# Altium footprint library PcbLib1.PcbLib: 20 footprints (part 1 of 2)
Each footprint in its own frame and in the unit in brackets; x right, y up, seen from the top. Pads: shape width x height; smd on the part's side, far side on the other; paste and mask are expansions set on the pad; w line width, h text height; cw(c..) or ccw(c..) is an arc to the next point about the centre after c.
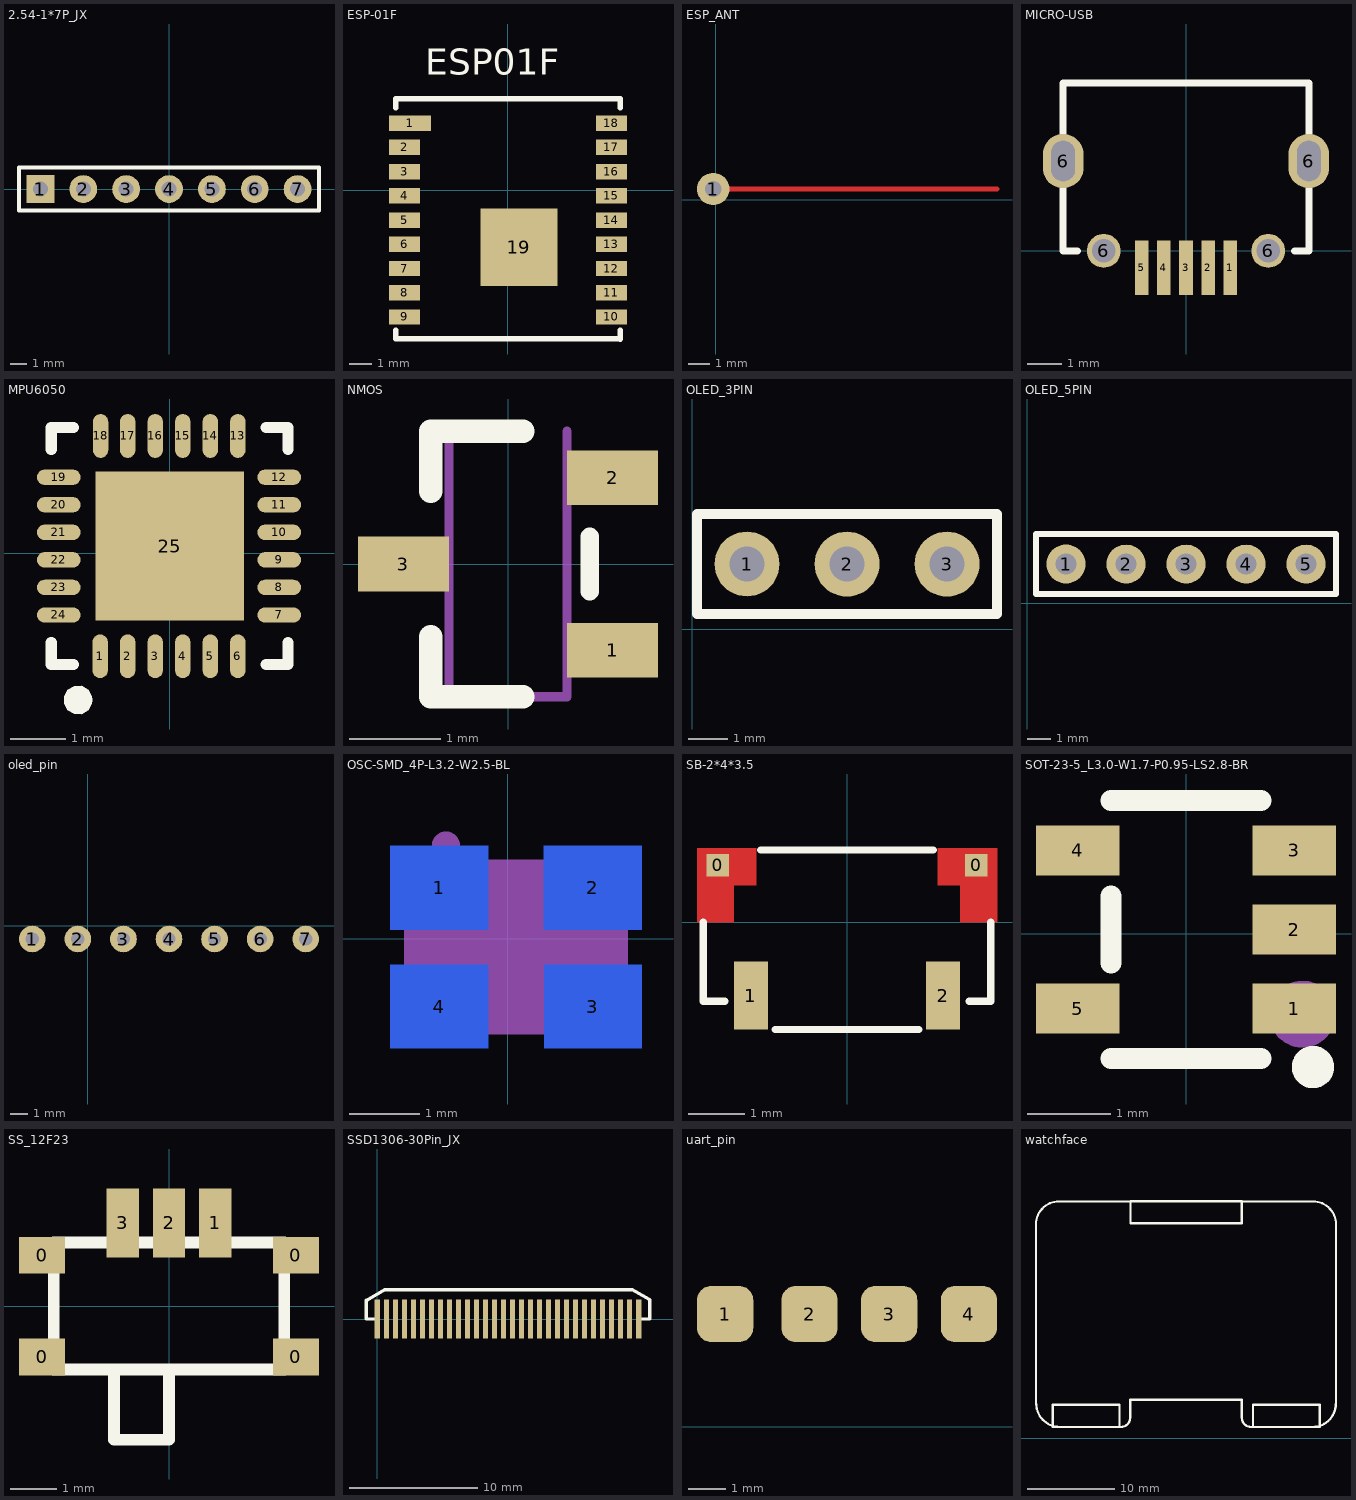
[diagram p0: the footprints below, top view; thin cyan lines are the x and y axes]

## 2.54-1*7P_JX [mil]
pads (7):
  rect 65x65 hole 35: 1(-300.06,0.15)
  round 65 hole 35: 2(-200,0) 3(-100,0) 4(0,0) 5(100,0) 6(200,0) 7(300,0)
Top Overlay:
  lines w10: -350.06,-49.85 -350.06,50.15 -200.06,50.15 349.94,50.15 349.94,-49.85 -350.06,-49.85

## ESP-01F [mm]
pads (19):
  rect 1.9x0.7 smd: 1(-4.445,3.054)
  rect 1.4x0.7 smd: 2(-4.695,1.954) 3(-4.695,0.854) 4(-4.695,-0.246) 5(-4.695,-1.346) 6(-4.695,-2.446) 7(-4.695,-3.546) 8(-4.695,-4.646) 9(-4.695,-5.746) 10(4.695,-5.746) 11(4.695,-4.646) 12(4.695,-3.546) 13(4.695,-2.446) 14(4.695,-1.346) 15(4.695,-0.246) 16(4.695,0.854) 17(4.695,1.954) 18(4.695,3.054)
  rect 3.5x3.5 smd: 19(0.493,-2.579)
Top Overlay:
  lines w0.254: -5.102,-6.743 -5.102,-6.343 ; -5.1,3.754 -5.1,4.154 ; -5.002,-6.743 4.998,-6.743 ; -5,4.154 5,4.154 ; 5.1,-6.746 5.1,-6.346 ; 5.1,3.754 5.1,4.154
  text "ESP01F" at -3.756,4.841 h2.03

## ESP_ANT [mil]
pads (1):
  round 60 hole 30: 1(-5,20)
Top Layer:
  lines w10: -5,20 520,20

## MICRO-USB [mm]
pads (9):
  rect 0.4x1.6 smd: 1(1.3,-0.5) 2(0.65,-0.5) 3(0,-0.5) 4(-0.65,-0.5) 5(-1.3,-0.5)
  oval 1.2x1.6 / inner oval 1.5x2 / far side oval 1.5x2 hole 0.7 slot 1.2 at 90 deg: 6(-3.625,2.65) 6(3.625,2.65)
  round 1 / inner round 1 / far side round 1.2 hole 0.7: 6(-2.425,0) 6(2.425,0)
Top Overlay:
  lines w0.2: -3.2,0 -3.625,0 -3.625,4.95 3.625,4.95 3.625,0 3.2,0
3D body "Micro-USB-DIP.STEP": height 2.68, standoff -0.63, extent -4.1,-0.23 4.1,5.2

## MPU6050 [mm]
pads (25):
  oval 0.28x0.796 smd: 1(-1.265,-1.873) 2(-0.765,-1.873) 3(-0.265,-1.873) 4(0.235,-1.873) 5(0.735,-1.873) 6(1.235,-1.873) 13(1.235,2.127) 14(0.735,2.127) 15(0.235,2.127) 16(-0.265,2.127) 17(-0.765,2.127) 18(-1.257,2.127)
  oval 0.796x0.28 smd: 7(1.985,-1.123) 8(1.985,-0.623) 9(1.985,-0.123) 10(1.985,0.377) 11(1.985,0.877) 12(1.985,1.377) 19(-2.015,1.377) 20(-2.015,0.877) 21(-2.015,0.377) 22(-2.015,-0.123) 23(-2.015,-0.623) 24(-2.015,-1.123)
  rect 2.7x2.7 smd: 25(-0.002,0.127)
Top Overlay:
  region: -1.412,-2.666 -1.413,-2.598 -1.481,-2.48 -1.599,-2.413 -1.735,-2.413 -1.853,-2.481 -1.92,-2.599 -1.92,-2.735 -1.853,-2.853 -1.735,-2.921 -1.599,-2.921 -1.481,-2.854 -1.413,-2.736 -1.412,-2.668
  lines w0.2: -2.152,-1.624 -2.152,-2.024 -1.752,-2.024 ; -2.152,1.877 -2.152,2.277 -1.752,2.277 ; 1.748,-2.024 2.148,-2.024 2.148,-1.624 ; 1.748,2.277 2.148,2.277 2.148,1.877
Mechanical 15:
  lines w0.003: -0.04,0.34 0.01,0.39

## NMOS [mm]
pads (3):
  rect 1x0.6 smd: 1(1.15,-0.95) 2(1.15,0.95) 3(-1.15,0)
Top Overlay:
  lines w0.2: 0.9,-0.3 0.9,0.3
  lines w0.254: -0.85,-0.8 -0.85,-1.46 0.165,-1.46 ; -0.85,0.8 -0.85,1.46 0.165,1.46
Mechanical 13:
  lines w0.1: -0.65,-1.46 -0.65,1.46 ; -0.65,-1.46 0.65,-1.46 ; -0.65,-1.46 -0.65,1.46 ; -0.65,-1.46 0.65,-1.46 ; -0.65,-1.46 0.65,-1.46 ; -0.65,-1.46 -0.65,1.46 ; 0.65,-1.46 0.65,1.46 ; 0.65,-1.46 0.65,1.46 ; 0.65,-1.46 0.65,1.46
3D body "SOT-23.step": height 1.3, standoff 0, extent -1.5,-1.5 1.5,1.5

## OLED_3PIN [mil]
pads (3):
  round 65 hole 35: 1(55,65) 2(155.06,64.85) 3(255.06,64.85)
Top Overlay:
  lines w10: 5,15 305,15 305,115 155,115 5,115 5,15

## OLED_5PIN [mil]
pads (5):
  round 65 hole 35: 1(65,65) 2(165.06,64.85) 3(265.06,64.85) 4(365.06,64.85) 5(465.06,64.85)
Top Overlay:
  lines w10: 15,15 515,15 515,115 165,115 15,115 15,15

## oled_pin [mil]
pads (7):
  round 60 hole 30: 1(-125,-30) 2(-22.5,-30) 3(80,-30) 4(182.5,-30) 5(285,-30) 6(387.5,-30) 7(490,-30)

## OSC-SMD_4P-L3.2-W2.5-BL [mm]
pads (4):
  rect 1.4x1.2 smd far side: 1(-0.986,0.736) 2(1.214,0.736) 3(1.214,-0.964) 4(-0.986,-0.964)
Bottom Overlay:
  lines w0.152: -2.143,0.136 -2.143,1.793 -0.286,1.793 ; -1.914,-1.793 2.143,-1.793 2.143,1.564 -1.914,1.564 -1.914,-1.793
Mechanical 4:
  region: -1.486,1.136 -1.486,-1.364 1.714,-1.364 1.714,1.136
Mechanical 5:
  region: -0.386,-1.264 -0.386,-0.464 -1.386,-0.464 -1.386,-1.264
  region: 0.614,-1.264 0.614,-0.464 1.614,-0.464 1.614,-1.264
  region: 0.614,1.036 0.614,0.236 1.614,0.236 1.614,1.036
  region: -0.386,1.036 -0.386,0.236 -1.386,0.236 -1.386,1.036
Mechanical 6:
  circle w0.06: c-1.486,1.136 r0.03
Mechanical 15:
  circle w0.2: c-0.886,1.336 r0.1

## SB-2*4*3.5 [mm] "贴片侧贴轻触开关"
pads (4):
  rect 0.4x0.4 smd: 0(-2.286,1) 0(2.286,1)
  rect 0.6x1.2 smd: 1(-1.7,-1.3) 2(1.7,-1.3)
Top Layer:
  region: 2.65,0 2.65,1.3 1.6,1.3 1.6,0.65 2,0.65 2,0
  region: -2.65,0 -2.65,1.3 -1.6,1.3 -1.6,0.65 -2,0.65 -2,0
Top Overlay:
  lines w0.127: -2.54,0 -2.54,-1.4 -2.156,-1.4 ; -1.524,1.27 1.524,1.27 ; -1.27,-1.9 1.27,-1.9 ; 2.156,-1.4 2.54,-1.4 2.54,0
Top Paste:
  region: 2.65,0 2.65,1.3 1.6,1.3 1.6,0.65 2,0.65 2,0
  region: -2.65,0 -2.65,1.3 -1.6,1.3 -1.6,0.65 -2,0.65 -2,0
Top Solder:
  region: 2.65,0 2.65,1.3 1.6,1.3 1.6,0.65 2,0.65 2,0
  region: -2.65,0 -2.65,1.3 -1.6,1.3 -1.6,0.65 -2,0.65 -2,0
3D body "SideKey.STEP": height 1.8, standoff -0.4, extent -2.275,-1.499 2.275,2.293

## SOT-23-5_L3.0-W1.7-P0.95-LS2.8-BR [mm]
pads (5):
  rect 1x0.6 smd: 1(1.3,-0.899) 2(1.3,0.05) 3(1.3,1) 4(-1.3,1.001) 5(-1.3,-0.899)
Top Overlay:
  circle w0.254: c1.524,-1.6 r0.127
  lines w0.254: -0.9,-1.5 0.9,-1.5 ; -0.9,-0.35 -0.9,0.45 ; -0.9,1.6 0.9,1.6
Mechanical 15:
  circle w0.4: c1.397,-0.965 r0.2

## SS_12F23 [mm] "七脚小拨动开关"
height 1.4
pads (7):
  rect 1x0.8 smd: 0(-2.75,-1.1) 0(-2.75,1.1) 0(2.75,-1.1) 0(2.75,1.1)
  rect 0.7x1.5 smd: 1(1,1.8) 2(0,1.8) 3(-1,1.8)
Top Overlay:
  lines w0.254: -1.192,-1.375 -1.192,-2.896 0,-2.896 0,-1.375 ; -2.5,-1.375 -2.5,1.375 2.5,1.375 2.5,-1.375 -2.5,-1.375
3D body "Switch_mini_5x3mm_SPDT_Side_SMT.STEP": height 1.4, standoff -0.5, extent -2.975,-2.965 3.025,2.235

## SSD1306-30Pin_JX [mm]
pads (30):
  rect 0.4x3 smd: 1(-0.002,0.004) 2(0.699,0.004) 3(1.398,0.004) 4(2.099,0.004) 5(2.798,0.004) 6(3.498,0.004) 7(4.199,0.004) 8(4.898,0.004) 9(5.598,0.004) 10(6.299,0.004) 11(6.998,0.004) 12(7.698,0.004) 13(8.399,0.004) 14(9.098,0.004) 15(9.798,0.004) 16(10.499,0.004) 17(11.198,0.004) 18(11.898,0.004) 19(12.599,0.004) 20(13.298,0.004) 21(13.998,0.004) 22(14.698,0.004) 23(15.398,0.004) 24(16.098,0.004) 25(16.799,0.004) 26(17.498,0.004) 27(18.198,0.004) 28(18.899,0.004) 29(19.598,0.004) 30(20.298,0.004)
Top Overlay:
  lines w0.254: -0.129,0.004 -0.851,0.004 -0.851,1.453 0.591,2.286 19.79,2.286 21.149,1.528 21.149,0.004 20.518,0.004

## uart_pin [mil]
pads (4):
  rrect50% 60x60 smd: 1(60,120) 2(150,120) 3(235,120) 4(320,120)

## watchface [mm]
Top Overlay:
  lines w0.254: 19.665,27.02 34.037,27.02 cw(c34.037,24.393) 36.665,24.393 36.665,3.963 cw(c36.537,3.963) 36.641,3.889 cw(c34.014,3.897) 34.014,1.269 26.956,1.269 cw(c26.956,2.315) 25.91,2.315 25.91,4.366 13.165,4.366 13.165,2.315 cw(c12.119,2.315) 12.119,1.269 5.103,1.269 cw(c5.103,3.939) 2.435,3.864 cw(c2.537,3.939) 2.41,3.939 2.41,24.393 cw(c5.037,24.393) 5.037,27.02 19.685,27.02 ; 4.318,1.27 11.938,1.27 11.938,3.81 8.128,3.81 4.318,3.81 4.318,1.27 ; 13.208,24.511 13.208,27.051 17.018,27.051 25.908,27.051 25.908,24.511 13.208,24.511 ; 27.178,1.27 34.798,1.27 34.798,3.81 30.988,3.81 27.178,3.81 27.178,1.27